# Altium footprint library tvc_lib_pcb.PcbLib: 15 footprints
Each footprint in its own frame and in the unit in brackets; x right, y up, seen from the top. Pads: shape width x height; smd on the part's side, far side on the other; paste and mask are expansions set on the pad; w line width, h text height; cw(c..) or ccw(c..) is an arc to the next point about the centre after c.
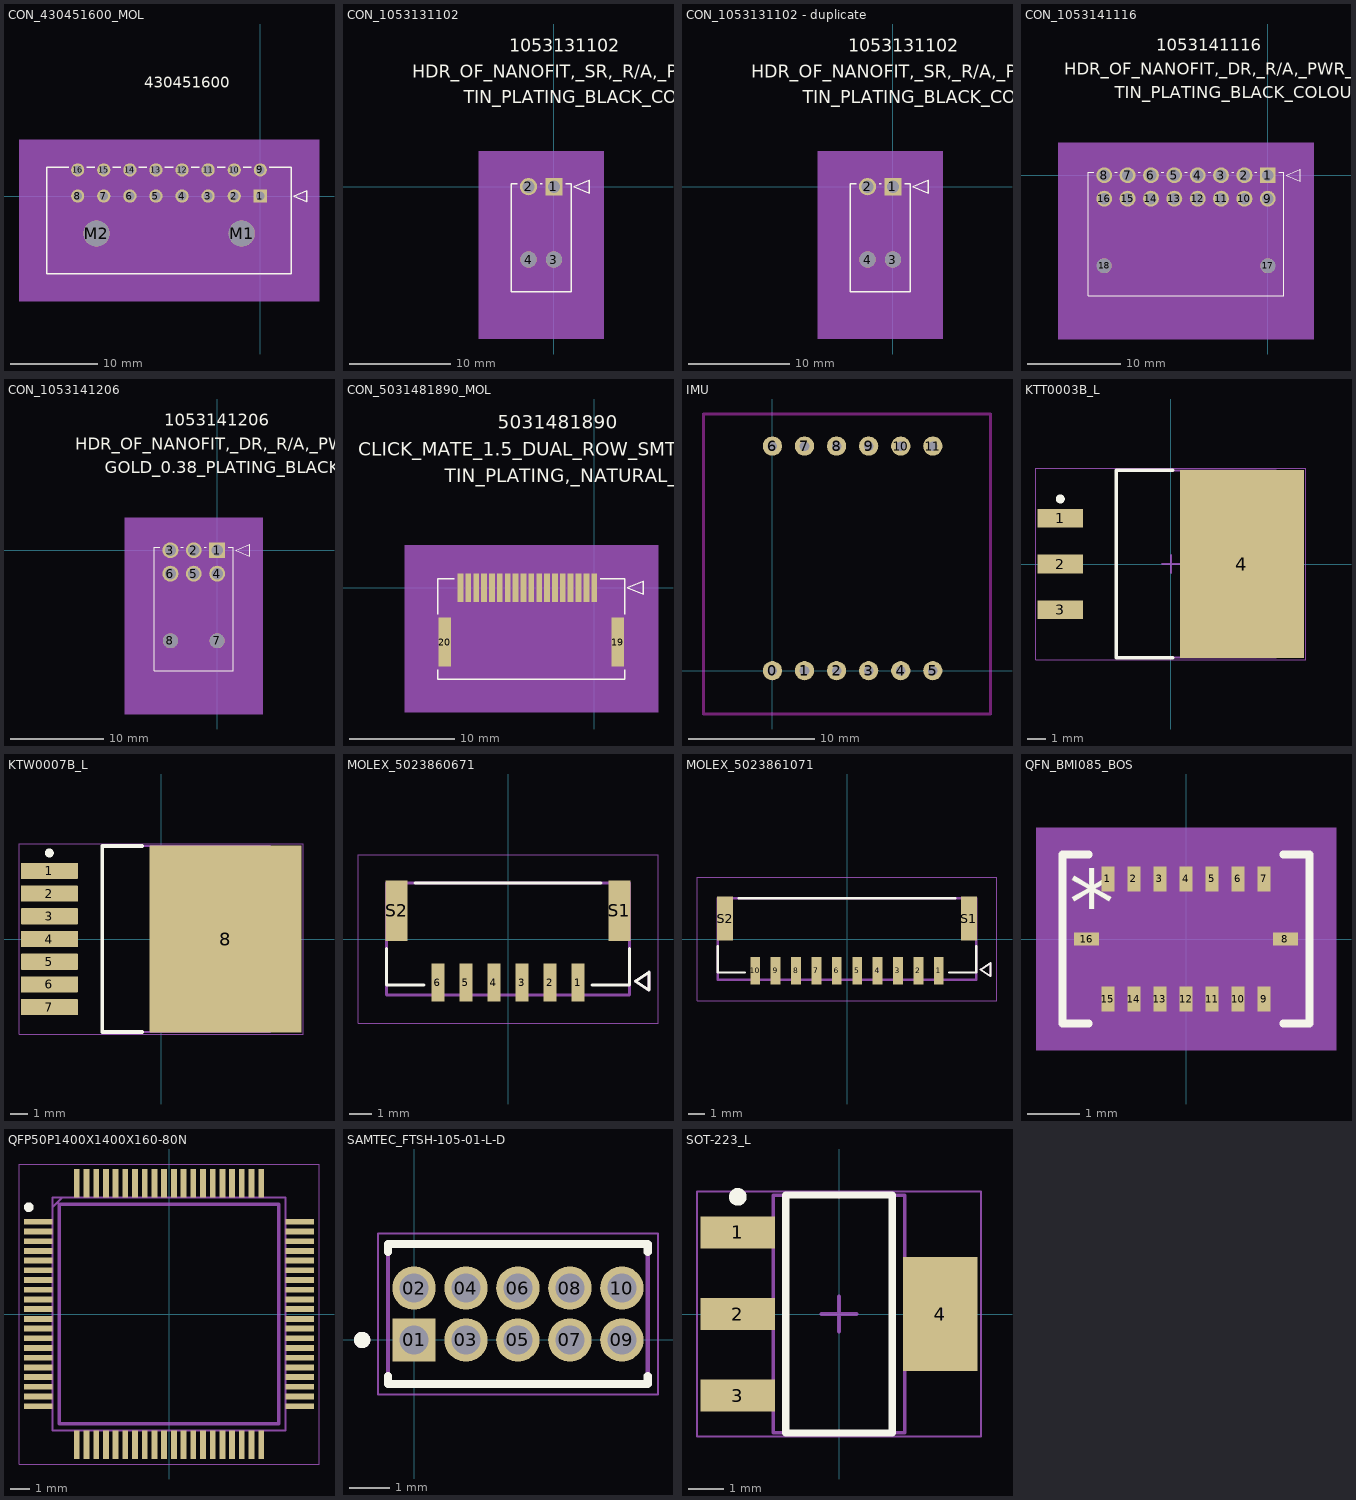
[diagram p0: the footprints below, top view; thin cyan lines are the x and y axes]

## CON_430451600_MOL [mm]
pads (18):
  rect 1.52x1.52 hole 1.02 mask+0.076: 1(0,0)
  round 1.52 hole 1.02 mask+0.076: 2(-3,0) 3(-6,0) 4(-9,0) 5(-12,0) 6(-15,0) 7(-18,0) 8(-21,0) 9(0,3) 10(-3,3) 11(-6,3) 12(-9,3) 13(-12,3) 14(-15,3) 15(-18,3) 16(-21,3)
  round 3 hole 3 unplated mask+0.076: M1(-2.14,-4.32) M2(-18.84,-4.32)
Top Overlay:
  lines w0.152: -22.032,3.32 -24.575,3.32 -24.575,-8.92 3.575,-8.92 3.575,3.32 1.032,3.32 ; -19.968,3.32 -19.032,3.32 ; -16.968,3.32 -16.032,3.32 ; -13.968,3.32 -13.032,3.32 ; -10.968,3.32 -10.032,3.32 ; -7.968,3.32 -7.032,3.32 ; -4.968,3.32 -4.032,3.32 ; -1.968,3.32 -1.032,3.32 ; 3.829,0 5.353,-0.635 5.353,0.635 3.829,0
  text "430451600" at -13.357,12.44 h1.27
Mechanical 3:
  text "NPTH_DRILL_SIZE:_3.0_MM,_TOLERANCE:_+0.05/-0.05" at -25.422,-18.04 h1.27
  text "PTH_DRILL_SIZE:_1.02_MM,_TOLERANCE:_+0.05/-0.05" at -25.422,-15.5 h1.27
Mechanical 5:
  region: -27.75,6.495 6.75,6.495 6.75,-12.095 -27.75,-12.095
Mechanical 10:
  text "NPTH_DRILL_SIZE:_3.0_MM,_TOLERANCE:_+0.05/-0.05" at -25.422,-18.04 h1.27
  text "PTH_DRILL_SIZE:_1.02_MM,_TOLERANCE:_+0.05/-0.05" at -25.422,-15.5 h1.27
Mechanical 13:
  lines w0.127: -24.575,-8.92 -24.575,3.32 3.575,3.32 3.575,-8.92 -24.575,-8.92 ; 3.829,0 5.353,-0.635 5.353,0.635 3.829,0
  text "430451600" at -13.357,12.44 h1.27
Mechanical 15:
  region: 4.845,4.59 -25.845,4.59 -25.845,-10.19 4.845,-10.19
  lines w0.127: -25.845,-10.19 4.845,-10.19 4.845,4.59 -25.845,4.59 -25.845,-10.19
3D body: height 0.25, standoff 0, extent 0,0 0.254,0.254

## CON_1053131102 [mm]
pads (4):
  rect 1.7x1.7 hole 1.2 mask+0.076: 1(0,0)
  round 1.7 hole 1.2 mask+0.076: 2(-2.5,0)
  round 1.6 hole 1.6 unplated mask+0.076: 3(0,-7.18) 4(-2.5,-7.18)
Top Overlay:
  lines w0.127: -3.628,0.31 -4.22,0.31 -4.22,-10.38 1.72,-10.38 1.72,0.31 1.17,0.31 ; -1.372,0.31 -1.17,0.31 ; 1.974,0 3.498,0.635 3.498,-0.635 1.974,0
  text "1053131102" at -4.425,13.29 h1.27
  text "HDR_OF_NANOFIT,_SR,_R/A,_PWR_CONN_-2_CKT" at -13.95,10.75 h1.27
  text "TIN_PLATING_BLACK_COLOUR" at -8.87,8.21 h1.27
Mechanical 3:
  text "NOTE" at -4.22,-18.73 h1.27
  text "MAXIMUM_PACKAGE_HEIGHT:_6.64_MM" at -4.22,-21.27 h1.27
  text "RECOMMENDED_PCB_THICKNESS:" at -4.22,-25.08 h1.27
  text "1.6_MM_TO_2.4_MM" at -4.22,-27.62 h1.27
Mechanical 5:
  region: -7.395,3.495 4.895,3.495 4.895,-15.015 -7.395,-15.015
Mechanical 10:
  text "NOTE" at -4.22,-18.73 h1.27
  text "MAXIMUM_PACKAGE_HEIGHT:_6.64_MM" at -4.22,-21.27 h1.27
  text "RECOMMENDED_PCB_THICKNESS:" at -4.22,-25.08 h1.27
  text "1.6_MM_TO_2.4_MM" at -4.22,-27.62 h1.27
Mechanical 13:
  lines w0.127: -4.22,-11.84 1.72,-11.84 1.72,0.32 -4.22,0.32 -4.22,-11.84 ; 1.974,0 3.498,0.635 3.498,-0.635 1.974,0
  text "1053131102" at -4.425,13.29 h1.27
  text "HDR_OF_NANOFIT,_SR,_R/A,_PWR_CONN_-2_CKT" at -13.95,10.75 h1.27
  text "TIN_PLATING_BLACK_COLOUR" at -8.87,8.21 h1.27
Mechanical 15:
  region: 2.99,1.59 -5.49,1.59 -5.49,-13.11 2.99,-13.11
  lines w0.127: -5.49,-13.11 -5.49,1.59 2.99,1.59 2.99,-13.11 -5.49,-13.11
3D body: height 0.25, standoff 0, extent 0,0 0.254,0.254

## CON_1053131102 - duplicate [mm]
pads (4):
  rect 1.7x1.7 hole 1.2 mask+0.076: 1(0,0)
  round 1.7 hole 1.2 mask+0.076: 2(-2.5,0)
  round 1.6 hole 1.6 unplated mask+0.076: 3(0,-7.18) 4(-2.5,-7.18)
Top Overlay:
  lines w0.127: -3.628,0.31 -4.22,0.31 -4.22,-10.38 1.72,-10.38 1.72,0.31 1.17,0.31 ; -1.372,0.31 -1.17,0.31 ; 1.974,0 3.498,-0.635 3.498,0.635 1.974,0
  text "TIN_PLATING_BLACK_COLOUR" at -8.87,8.21 h1.27
  text "HDR_OF_NANOFIT,_SR,_R/A,_PWR_CONN_-2_CKT" at -13.95,10.75 h1.27
  text "1053131102" at -4.425,13.29 h1.27
Mechanical 3:
  text "1.6_MM_TO_2.4_MM" at -4.22,-27.62 h1.27
  text "RECOMMENDED_PCB_THICKNESS:" at -4.22,-25.08 h1.27
  text "MAXIMUM_PACKAGE_HEIGHT:_6.64_MM" at -4.22,-21.27 h1.27
  text "NOTE" at -4.22,-18.73 h1.27
Mechanical 5:
  region: -7.395,3.495 4.895,3.495 4.895,-15.015 -7.395,-15.015
Mechanical 10:
  text "1.6_MM_TO_2.4_MM" at -4.22,-27.62 h1.27
  text "RECOMMENDED_PCB_THICKNESS:" at -4.22,-25.08 h1.27
  text "MAXIMUM_PACKAGE_HEIGHT:_6.64_MM" at -4.22,-21.27 h1.27
  text "NOTE" at -4.22,-18.73 h1.27
Mechanical 13:
  lines w0.127: -4.22,-11.84 -4.22,0.32 1.72,0.32 1.72,-11.84 -4.22,-11.84 ; 1.974,0 3.498,-0.635 3.498,0.635 1.974,0
  text "TIN_PLATING_BLACK_COLOUR" at -8.87,8.21 h1.27
  text "HDR_OF_NANOFIT,_SR,_R/A,_PWR_CONN_-2_CKT" at -13.95,10.75 h1.27
  text "1053131102" at -4.425,13.29 h1.27
Mechanical 15:
  region: 2.99,1.59 -5.49,1.59 -5.49,-13.11 2.99,-13.11
  lines w0.127: -5.49,-13.11 2.99,-13.11 2.99,1.59 -5.49,1.59 -5.49,-13.11
3D body: height 0.25, standoff 0, extent 0,0 0.254,0.254

## CON_1053141116 [mm]
pads (18):
  rect 1.7x1.7 hole 1.2 mask+0.076: 1(0,0)
  round 1.7 hole 1.2 mask+0.076: 2(-2.5,0) 3(-5,0) 4(-7.5,0) 5(-10,0) 6(-12.5,0) 7(-15,0) 8(-17.5,0) 9(0,-2.5) 10(-2.5,-2.5) 11(-5,-2.5) 12(-7.5,-2.5) 13(-10,-2.5) 14(-12.5,-2.5) 15(-15,-2.5) 16(-17.5,-2.5)
  round 1.6 hole 1.6 unplated mask+0.076: 17(0,-9.68) 18(-17.5,-9.68)
Top Overlay:
  lines w0.127: -18.628,0.31 -19.22,0.31 -19.22,-12.88 1.72,-12.88 1.72,0.31 1.17,0.31 ; -16.372,0.31 -16.128,0.31 ; -13.872,0.31 -13.628,0.31 ; -11.372,0.31 -11.128,0.31 ; -8.872,0.31 -8.628,0.31 ; -6.372,0.31 -6.128,0.31 ; -3.872,0.31 -3.628,0.31 ; -1.372,0.31 -1.17,0.31 ; 1.974,0 3.498,0.635 3.498,-0.635 1.974,0
  text "1053141116" at -11.925,13.309 h1.27
  text "HDR_OF_NANOFIT,_DR,_R/A,_PWR_CONN_-16_CKT" at -21.768,10.769 h1.27
  text "TIN_PLATING_BLACK_COLOUR" at -16.37,8.229 h1.27
Mechanical 3:
  text "NOTE" at -19.22,-21.272 h1.27
  text "MAXIMUM_PACKAGE_HEIGHT:_9.14_MM" at -19.22,-23.812 h1.27
  text "RECOMMENDED_PCB_THICKNESS:" at -19.22,-27.622 h1.27
  text "1.6_MM_TO_2.4_MM" at -19.22,-30.162 h1.27
Mechanical 5:
  region: -22.395,3.493 4.895,3.493 4.895,-17.515 -22.395,-17.515
Mechanical 10:
  text "NOTE" at -19.22,-21.272 h1.27
  text "MAXIMUM_PACKAGE_HEIGHT:_9.14_MM" at -19.22,-23.812 h1.27
  text "RECOMMENDED_PCB_THICKNESS:" at -19.22,-27.622 h1.27
  text "1.6_MM_TO_2.4_MM" at -19.22,-30.162 h1.27
Mechanical 13:
  lines w0.127: -19.22,-14.34 1.72,-14.34 1.72,0.318 -19.22,0.318 -19.22,-14.34 ; 1.974,0 3.498,0.635 3.498,-0.635 1.974,0
  text "1053141116" at -11.925,13.309 h1.27
  text "HDR_OF_NANOFIT,_DR,_R/A,_PWR_CONN_-16_CKT" at -21.768,10.769 h1.27
  text "TIN_PLATING_BLACK_COLOUR" at -16.37,8.229 h1.27
Mechanical 15:
  region: 2.99,1.588 -20.49,1.588 -20.49,-15.61 2.99,-15.61
  lines w0.127: -20.49,-15.61 -20.49,1.588 2.99,1.588 2.99,-15.61 -20.49,-15.61
3D body: height 0.25, standoff 0, extent 0,0 0.254,0.254

## CON_1053141206 [mm]
pads (8):
  rect 1.7x1.7 hole 1.2 mask+0.076: 1(0,0)
  round 1.7 hole 1.2 mask+0.076: 2(-2.5,0) 3(-5,0) 4(0,-2.5) 5(-2.5,-2.5) 6(-5,-2.5)
  round 1.6 hole 1.6 unplated mask+0.076: 7(0,-9.68) 8(-5,-9.68)
Top Overlay:
  lines w0.127: -6.128,0.31 -6.72,0.31 -6.72,-12.88 1.72,-12.88 1.72,0.31 1.17,0.31 ; -3.872,0.31 -3.628,0.31 ; -1.372,0.31 -1.17,0.31 ; 1.974,0 3.498,-0.635 3.498,0.635 1.974,0
  text "GOLD_0.38_PLATING_BLACK_COLOUR" at -12.025,8.229 h1.27
  text "HDR_OF_NANOFIT,_DR,_R/A,_PWR_CONN_-6_CKT" at -15.2,10.769 h1.27
  text "1053141206" at -5.675,13.309 h1.27
Mechanical 3:
  text "1.6_MM_TO_2.4_MM" at -6.72,-30.162 h1.27
  text "RECOMMENDED_PCB_THICKNESS:" at -6.72,-27.622 h1.27
  text "MAXIMUM_PACKAGE_HEIGHT:_9.14_MM" at -6.72,-23.812 h1.27
  text "NOTE" at -6.72,-21.272 h1.27
Mechanical 5:
  region: -9.895,3.493 4.895,3.493 4.895,-17.515 -9.895,-17.515
Mechanical 10:
  text "1.6_MM_TO_2.4_MM" at -6.72,-30.162 h1.27
  text "RECOMMENDED_PCB_THICKNESS:" at -6.72,-27.622 h1.27
  text "MAXIMUM_PACKAGE_HEIGHT:_9.14_MM" at -6.72,-23.812 h1.27
  text "NOTE" at -6.72,-21.272 h1.27
Mechanical 13:
  lines w0.127: -6.72,-14.34 -6.72,0.318 1.72,0.318 1.72,-14.34 -6.72,-14.34 ; 1.974,0 3.498,-0.635 3.498,0.635 1.974,0
  text "GOLD_0.38_PLATING_BLACK_COLOUR" at -12.025,8.229 h1.27
  text "HDR_OF_NANOFIT,_DR,_R/A,_PWR_CONN_-6_CKT" at -15.2,10.769 h1.27
  text "1053141206" at -5.675,13.309 h1.27
Mechanical 15:
  region: 2.99,1.588 -7.99,1.588 -7.99,-15.61 2.99,-15.61
  lines w0.127: -7.99,-15.61 2.99,-15.61 2.99,1.588 -7.99,1.588 -7.99,-15.61
3D body: height 0.25, standoff 0, extent 0,0 0.254,0.254

## CON_5031481890_MOL [mm]
pads (20):
  rect 0.55x2.7 smd paste+0 mask+0.064: 1(0,0) 2(-0.75,0) 3(-1.5,0) 4(-2.25,0) 5(-3,0) 6(-3.75,0) 7(-4.5,0) 8(-5.25,0) 9(-6,0) 10(-6.75,0) 11(-7.5,0) 12(-8.25,0) 13(-9,0) 14(-9.75,0) 15(-10.5,0) 16(-11.25,0) 17(-12,0) 18(-12.75,0)
  rect 1.2x4.65 smd paste+0 mask+0.076: 19(2.23,-5.175) 20(-14.23,-5.175)
Top Overlay:
  lines w0.127: -14.9,-7.812 -14.9,-8.7 2.9,-8.7 2.9,-7.812 ; -14.9,-2.538 -14.9,0.85 -13.345,0.85 ; 0.595,0.85 2.9,0.85 2.9,-2.538 ; 3.154,0 4.678,0.635 4.678,-0.635 3.154,0
  text "5031481890" at -9.175,15.125 h1.27
  text "CLICK_MATE_1.5_DUAL_ROW_SMT_RA_TYPE_REC_ASSY_-18_CKT" at -22.51,12.585 h1.27
  text "TIN_PLATING,_NATURAL_COLOR" at -14.255,10.045 h1.27
Mechanical 3:
  text "NOTE" at -14.9,-16.93 h1.27
  text "MAXIMUM_PACKAGE_HEIGHT:_9.2_MM" at -14.9,-19.47 h1.27
Mechanical 5:
  region: -18.075,4.025 6.075,4.025 6.075,-11.875 -18.075,-11.875
Mechanical 10:
  text "NOTE" at -14.9,-16.93 h1.27
  text "MAXIMUM_PACKAGE_HEIGHT:_9.2_MM" at -14.9,-19.47 h1.27
Mechanical 13:
  lines w0.127: -14.9,-8.7 2.9,-8.7 2.9,0.85 -14.9,0.85 -14.9,-8.7 ; 3.154,0 4.678,0.635 4.678,-0.635 3.154,0
  text "5031481890" at -9.175,15.125 h1.27
  text "CLICK_MATE_1.5_DUAL_ROW_SMT_RA_TYPE_REC_ASSY_-18_CKT" at -22.51,12.585 h1.27
  text "TIN_PLATING,_NATURAL_COLOR" at -14.255,10.045 h1.27
Mechanical 15:
  region: 4.17,2.12 -16.17,2.12 -16.17,-9.97 4.17,-9.97
  lines w0.127: -16.17,-9.97 -16.17,2.12 4.17,2.12 4.17,-9.97 -16.17,-9.97
3D body: height 0.25, standoff 0, extent 0,0 0.254,0.254

## IMU [mil] "IMU Daughter Board"
height 866.14
pads (12):
  round 60 hole 30: 0(0,0) 1(100,0) 2(200,0) 3(300,0) 4(400,0) 5(500,0) 6(0,700) 7(100,700) 8(200,700) 9(300,700) 10(400,700) 11(500,700)
Top Layer keep-out:
  lines w10: -215,-135 680,-135 680,760 680,800 -215,800 -215,-95 -215,-135

## KTT0003B_L [mm] "D2-PAK, 3-Leads, Body 10.41x8.89mm, Pitch 2.54mm, IPC High Density"
height 4.64
pads (4):
  rect 2.55x1.05 smd: 1(-6.15,2.54) 2(-6.15,0) 3(-6.15,-2.54)
  rect 6.9x10.45 smd: 4(3.95,0)
Top Overlay:
  circle w0.25: c-6.15,3.615 r0.125
  lines w0.2: 0.1,-5.2 -3.05,-5.2 -3.05,5.2 0.1,5.2
Mechanical 1:
  text ".Designator" at -1.651,-0.508 h1.2
Mechanical 13:
  lines w0.1: -3.05,-5.2 5.84,-5.2 5.84,5.2 -3.05,5.2 -3.05,-5.2
Mechanical 15:
  lines w0.05: -7.5,-5.325 7.5,-5.325 7.5,5.325 -7.5,5.325 -7.5,-5.325
  lines w0.1: -0.5,0 0.5,0 ; 0,-0.5 0,0.5
3D body "KTT0003B_L.step": height 4.64, standoff 0, extent -6.825,-5.2 7.525,5.2

## KTW0007B_L [mm] "DPAK, 7-Leads, Body 9.4x10.4mm, Pitch 1.27mm, IPC High Density"
height 4.65
pads (8):
  rrect11% 3.2x0.9 smd: 1(-6.25,3.81) 2(-6.25,2.54) 3(-6.25,1.27) 4(-6.25,0) 5(-6.25,-1.27) 6(-6.25,-2.54) 7(-6.25,-3.81)
  rrect1% 8.5x10.45 smd: 8(3.6,0)
Top Overlay:
  circle w0.25: c-6.25,4.81 r0.125
  lines w0.2: -1.05,-5.2 -3.3,-5.2 -3.3,5.2 -1.05,5.2
Mechanical 1:
  text ".Designator" at -3.048,-0.508 h1.3
Mechanical 13:
  lines w0.1: -3.3,-5.2 -3.3,5.2 6.1,5.2 6.1,-5.2 -3.3,-5.2
Mechanical 15:
  lines w0.05: -7.95,-5.325 -7.95,5.325 7.95,5.325 7.95,-5.325 -7.95,-5.325
  lines w0.1: -0.5,0 0.5,0 ; 0,-0.5 0,0.5
3D body: height 4.65, standoff 0, extent -3.3,-5.2 6.1,5.2

## MOLEX_5023860671 [mm]
height 5.55
pads (8):
  rect 0.6x1.7 smd mask+0.076: 1(3.125,-1.95) 2(1.875,-1.95) 3(0.625,-1.95) 4(-0.625,-1.95) 5(-1.875,-1.95) 6(-3.125,-1.95)
  rect 1x2.7 smd mask+0.076: S1(4.975,1.25) S2(-4.975,1.25)
Top Overlay:
  lines w0.127: -5.425,-0.42 -5.425,-2.05 -3.745,-2.05 ; -4.155,2.5 4.155,2.5 ; 3.745,-2.05 5.425,-2.05 5.425,-0.42 ; 5.695,-1.88 6.295,-2.28 6.295,-1.48 5.695,-1.88
Mechanical 13:
  lines w0.127: -5.425,-2.5 5.425,-2.5 5.425,2.5 -5.425,2.5 -5.425,-2.5 ; 5.695,-1.88 6.295,-2.28 6.295,-1.48 5.695,-1.88
Mechanical 15:
  lines w0.05: -6.695,-3.77 6.695,-3.77 6.695,3.77 -6.695,3.77 -6.695,-3.77

## MOLEX_5023861071 [mm]
height 5.55
pads (12):
  rect 0.6x1.7 smd mask+0.076: 1(5.625,-1.95) 2(4.375,-1.95) 3(3.125,-1.95) 4(1.875,-1.95) 5(0.625,-1.95) 6(-0.625,-1.95) 7(-1.875,-1.95) 8(-3.125,-1.95) 9(-4.375,-1.95) 10(-5.625,-1.95)
  rect 1x2.7 smd mask+0.076: S1(7.475,1.25) S2(-7.475,1.25)
Top Overlay:
  lines w0.127: -7.925,-0.42 -7.925,-2.05 -6.245,-2.05 ; -6.655,2.5 6.655,2.5 ; 6.245,-2.05 7.925,-2.05 7.925,-0.42 ; 8.195,-1.88 8.795,-2.28 8.795,-1.48 8.195,-1.88
Mechanical 13:
  lines w0.127: -7.925,-2.5 7.925,-2.5 7.925,2.5 -7.925,2.5 -7.925,-2.5 ; 8.195,-1.88 8.795,-2.28 8.795,-1.48 8.195,-1.88
Mechanical 15:
  lines w0.05: -9.195,-3.77 9.195,-3.77 9.195,3.77 -9.195,3.77 -9.195,-3.77

## QFN_BMI085_BOS [mil]
pads (16):
  rect 10x19 smd paste+0 mask+0: 1(-59.06,45.5) 2(-39.37,45.5) 3(-19.68,45.5) 4(0,45.5) 5(19.68,45.5) 6(39.37,45.5) 7(59.06,45.5) 9(59.06,-45.5) 10(39.37,-45.5) 11(19.68,-45.5) 12(0,-45.5) 13(-19.68,-45.5) 14(-39.37,-45.5) 15(-59.06,-45.5)
  rect 19x10 smd paste+0 mask+0: 8(75.25,0) 16(-75.25,0)
Top Overlay:
  lines w6: -73.57,-64 -93.5,-64 -93.5,64 -73.57,64 ; 73.57,-64 93.5,-64 93.5,64 73.57,64
  text "*" at -88.5,3 h50
Mechanical 5:
  region: -113.5,84 -113.5,-84 113.5,-84 113.5,84
Mechanical 13:
  lines w1: -88.5,9 -38.5,59 ; -88.5,-59 88.5,-59 88.5,59 -88.5,59 -88.5,-59 ; -88.5,-5 -88.5,5 -64,5 -64,-5 -88.5,-5 ; -64.06,-59 -54.06,-59 -54.06,-55 -64.06,-55 -64.06,-59 ; -64.06,55 -54.06,55 -54.06,59 -64.06,59 -64.06,55 ; -44.37,-59 -34.37,-59 -34.37,-55 -44.37,-55 -44.37,-59 ; -44.37,55 -34.37,55 -34.37,59 -44.37,59 -44.37,55 ; -24.68,-59 -14.69,-59 -14.69,-55 -24.68,-55 -24.68,-59 ; -24.68,55 -14.69,55 -14.69,59 -24.68,59 -24.68,55 ; -5,-59 5,-59 5,-55 -5,-55 -5,-59 ; -5,55 5,55 5,59 -5,59 -5,55 ; 14.69,-59 24.68,-59 24.68,-55 14.69,-55 14.69,-59 ; 14.69,55 24.68,55 24.68,59 14.69,59 14.69,55 ; 34.37,-59 44.37,-59 44.37,-55 34.37,-55 34.37,-59 ; 34.37,55 44.37,55 44.37,59 34.37,59 34.37,55 ; 54.06,-59 64.06,-59 64.06,-55 54.06,-55 54.06,-59 ; 54.06,55 64.06,55 64.06,59 54.06,59 54.06,55 ; 64,-5 88.5,-5 88.5,5 64,5 64,-5
  text "*" at -60.5,-24 h50
Mechanical 15:
  region: -68.9,-69 -98.5,-69 -98.5,-9.84 -98.5,9.84 -98.5,69 -68.9,69 68.9,69 98.5,69 98.5,9.84 98.5,-9.84 98.5,-69 68.9,-69
  lines w6: -98.5,-69 -98.5,-9.84 -98.5,9.84 -98.5,69 -68.9,69 68.9,69 98.5,69 98.5,9.84 98.5,-9.84 98.5,-69 68.9,-69 -68.9,-69 -98.5,-69
3D body: height 10, standoff 0, extent 0,0 10,10

## QFP50P1400X1400X160-80N [mm]
pads (80):
  rect 1.475x0.3 smd: 1(-6.738,4.75) 2(-6.738,4.25) 3(-6.738,3.75) 4(-6.738,3.25) 5(-6.738,2.75) 6(-6.738,2.25) 7(-6.738,1.75) 8(-6.738,1.25) 9(-6.738,0.75) 10(-6.738,0.25) 11(-6.738,-0.25) 12(-6.738,-0.75) 13(-6.738,-1.25) 14(-6.738,-1.75) 15(-6.738,-2.25) 16(-6.738,-2.75) 17(-6.738,-3.25) 18(-6.738,-3.75) 19(-6.738,-4.25) 20(-6.738,-4.75) 41(6.738,-4.75) 42(6.738,-4.25) 43(6.738,-3.75) 44(6.738,-3.25) 45(6.738,-2.75) 46(6.738,-2.25) 47(6.738,-1.75) 48(6.738,-1.25) 49(6.738,-0.75) 50(6.738,-0.25) 51(6.738,0.25) 52(6.738,0.75) 53(6.738,1.25) 54(6.738,1.75) 55(6.738,2.25) 56(6.738,2.75) 57(6.738,3.25) 58(6.738,3.75) 59(6.738,4.25) 60(6.738,4.75)
  rect 0.3x1.475 smd: 21(-4.75,-6.738) 22(-4.25,-6.738) 23(-3.75,-6.738) 24(-3.25,-6.738) 25(-2.75,-6.738) 26(-2.25,-6.738) 27(-1.75,-6.738) 28(-1.25,-6.738) 29(-0.75,-6.738) 30(-0.25,-6.738) 31(0.25,-6.738) 32(0.75,-6.738) 33(1.25,-6.738) 34(1.75,-6.738) 35(2.25,-6.738) 36(2.75,-6.738) 37(3.25,-6.738) 38(3.75,-6.738) 39(4.25,-6.738) 40(4.75,-6.738) 61(4.75,6.738) 62(4.25,6.738) 63(3.75,6.738) 64(3.25,6.738) 65(2.75,6.738) 66(2.25,6.738) 67(1.75,6.738) 68(1.25,6.738) 69(0.75,6.738) 70(0.25,6.738) 71(-0.25,6.738) 72(-0.75,6.738) 73(-1.25,6.738) 74(-1.75,6.738) 75(-2.25,6.738) 76(-2.75,6.738) 77(-3.25,6.738) 78(-3.75,6.738) 79(-4.25,6.738) 80(-4.75,6.738)
Top Overlay:
  circle w0.25: c-7.225,5.5 r0.125
Mechanical 3:
  lines w0.05: -7.725,-7.725 7.725,-7.725 7.725,7.725 -7.725,7.725 -7.725,-7.725
  lines w0.1: -6,5.5 -5.5,6 ; -6,-6 6,-6 6,6 -6,6 -6,-6
Mechanical 7:
  lines w0.2: -5.65,-5.65 5.65,-5.65 5.65,5.65 -5.65,5.65 -5.65,-5.65

## SAMTEC_FTSH-105-01-L-D [mm]
pads (10):
  rect 1.06x1.06 hole 0.71: 01(0,0)
  round 1.06 hole 0.71: 02(0,1.27) 03(1.27,0) 04(1.27,1.27) 05(2.54,0) 06(2.54,1.27) 07(3.81,0) 08(3.81,1.27) 09(5.08,0) 10(5.08,1.27)
Top Overlay:
  circle w0.2: c-1.27,0 r0.1
  lines w0.2: -0.635,-0.88 -0.635,-1.08 5.715,-1.08 5.715,-0.88 ; -0.635,2.15 -0.635,2.35 5.715,2.35 5.715,2.15
Mechanical 13:
  circle w0.2: c-1.27,0 r0.1
  lines w0.1: -0.635,-1.08 -0.635,2.35 5.715,2.35 5.715,-1.08 -0.635,-1.08
Mechanical 15:
  lines w0.05: -0.885,-1.33 -0.885,2.6 5.965,2.6 5.965,-1.33 -0.885,-1.33
3D body "step_temp.STEP": height 5.56, standoff -2.29, extent -0.635,-1.079 5.715,2.349

## SOT-223_L [mm] "SOT223, 4-Leads, Body 6.5x3.5mm, Pitch 2.3mm, Lead Span 7mm, IPC High Density"
height 1.8
pads (4):
  rect 2.1x0.9 smd: 1(-2.85,2.3) 2(-2.85,0) 3(-2.85,-2.3)
  rect 2.1x3.2 smd: 4(2.85,0)
Top Overlay:
  circle w0.25: c-2.85,3.3 r0.125
  lines w0.2: -1.5,-3.35 -1.5,3.35 1.5,3.35 1.5,-3.35 -1.5,-3.35
Mechanical 13:
  lines w0.1: -1.85,-3.35 -1.85,3.35 1.85,3.35 1.85,-3.35 -1.85,-3.35
Mechanical 15:
  lines w0.05: -4,-3.45 -4,3.45 4,3.45 4,-3.45 -4,-3.45
  lines w0.1: -0.5,0 0.5,0 ; 0,-0.5 0,0.5
3D body: height 1.8, standoff 0.02, extent -1.85,-3.35 1.85,3.35